# Altium integrated library tgs5342.IntLib: 3 symbols
Pins are listed as number, name and electrical type; pins without a type are passive.

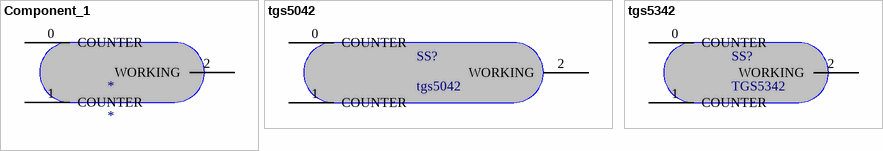
[diagram p0: symbols Component_1 to tgs5342]

## Component_1
designator *
pins: 0 COUNTER, 1 COUNTER, 2 WORKING

## tgs5042
designator SS?
footprint TGS5042
pins: 0 COUNTER, 1 COUNTER, 2 WORKING

## tgs5342
designator SS?, comment TGS5342
footprint TGS5342
pins: 0 COUNTER, 1 COUNTER, 2 WORKING